# Altium schematic symbol library MicLib.SchLib: 16 symbols
Pins are listed as number, name and electrical type; pins without a type are passive.

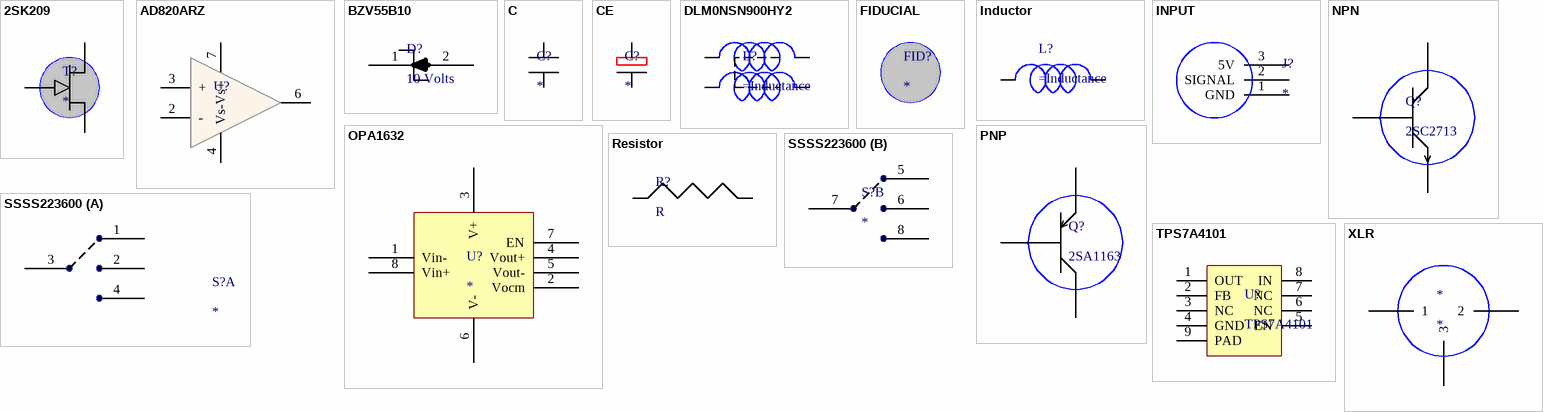
[diagram p0: symbols 2SK209 to XLR]

## 2SK209
designator T?
footprint TO-236/SC-59/SOT-23 (SOT23, 3-Leads, Body 2.90x2.45mm, Pitch 0.95mm, IPC Medium Density)
pins: 1 D, 2 S, 3 G

## AD820ARZ
designator U?
footprint SOIC-8 (Footprint not found)
pins: 2 -, 3 +, 4 Vs-, 6, 7 Vs+

## BZV55B10
designator D?, comment 10 Volts
footprint SOD80C (MELF Diode, 2-Leads, Body 3.50x1.53mm, IPC Medium Density)
pins: 1 K, 2 A

## C
designator C?
footprint C0805 (Footprint not found)
pins: 1, 2

## CE
designator C?
footprint CT6032 (Molded Capacitor, 2-Leads, Body 6.00x3.20mm, IPC Medium Density)
pins: 1 +, 2 -

## DLM0NSN900HY2
designator L?
Resistance: R
footprint DLM0NSN900HY2 (Chip Inductor, 2-Leads, Body 0.65x0.85mm, IPC Medium Density)
pins: 1, 2, 3, 4

## FIDUCIAL
designator FID?
footprint FIDUCIAL

## Inductor
designator L?
Resistance: R
footprint MELF-0207 (Footprint not found)
pins: 1, 2

## INPUT
designator J?
footprint INPUT (Footprint not found)
pins: 1 GND, 2 SIGNAL, 3 5V

## NPN
designator Q?, comment 2SC2713
footprint TO-236/SC-59/SOT-23 (SOT23, 3-Leads, Body 2.90x2.45mm, Pitch 0.95mm, IPC Medium Density)
pins: 1 B, 2 E, 3 C

## OPA1632
designator U?
footprint SOIC-8 (Footprint not found)
pins: 1 Vin-, 2 Vocm, 3 V+, 4 Vout+, 5 Vout-, 6 V-, 7 EN, 8 Vin+

## PNP
designator Q?, comment 2SA1163
footprint TO-236/SC-59/SOT-23 (SOT23, 3-Leads, Body 2.90x2.45mm, Pitch 0.95mm, IPC Medium Density)
pins: 1 B, 2 E, 3 C

## Resistor
designator R?, comment R
Resistance: R
footprint MMA0204 (MELF Resistor, 2-Leads, Body 3.60x1.40mm, IPC High Density)
pins: 1, 2

## SSSS223600
designator S?
footprint SSSS223600 (Footprint not found)
part A pins: 1, 2, 3, 4
part B pins: 5, 6, 7, 8

## TPS7A4101
designator U?
footprint HVSSOP-8 (Footprint not found)
pins: 1 OUT, 2 FB, 3 NC, 4 GND, 5 EN, 6 NC, 7 NC, 8 IN, 9 PAD

## XLR
designator *
footprint XLR (Footprint not found)
pins: 1, 2, 3